# EAGLE library part ABK-PRO-MINI-SMD (library arduinoClone)
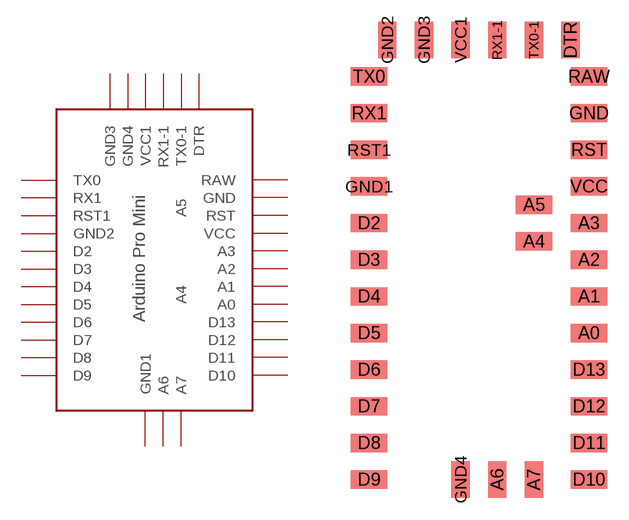
[diagram p5: symbol with the pads of ABK-PRO-MINI-SMD; footprint ABK-PRO-MINI-SMD]

Designator prefix -

## ABK-PRO-MINI-SMD  [ABK-PRO-MINI-SMD]
A0  A0
A1  A1
A2  A2
A3  A3
A4  A4
A5  A5
A6  A6
A7  A7
D2  D2
D3  D3
D4  D4
D5  D5
D6  D6
D7  D7
D8  D8
D9  D9
D10  D10
D11  D11
D12  D12
D13  D13
DTR  DTR
GND  GND
GND1  GND1
GND2  GND2
GND3  GND3
GND4  GND4
RAW  RAW
RST  RST
RST1  RST1
RX1  RX1
RX1-1  RX1-1
TX0  TX0
TX0-1  TX0-1
VCC  VCC
VCC1  VCC1

## Footprint ABK-PRO-MINI-SMD (pad centres in mm)
smd 2.54 x 1.27: A0 7.62,-6.35; A1 7.62,-3.81; A2 7.62,-1.27; A3 7.62,1.27; A4 3.81,0; A5 3.81,2.54; D2 -7.62,1.27; D3 -7.62,-1.27; D4 -7.62,-3.81; D5 -7.62,-6.35; D6 -7.62,-8.89; D7 -7.62,-11.43; D8 -7.62,-13.97; D9 -7.62,-16.51; D10 7.62,-16.51; D11 7.62,-13.97; D12 7.62,-11.43; D13 7.62,-8.89; GND 7.62,8.89; GND1 -7.62,3.81; RAW 7.62,11.43; RST 7.62,6.35; RST1 -7.62,6.35; RX1 -7.62,8.89; TX0 -7.62,11.43; VCC 7.62,3.81
smd 1.27 x 2.54: A6 1.27,-16.51; A7 3.81,-16.51; DTR 6.35,13.97; GND2 -6.35,13.97; GND3 -3.81,13.97; GND4 -1.27,-16.51; RX1-1 1.27,13.97; TX0-1 3.81,13.97; VCC1 -1.27,13.97